# EAGLE library part USB3343 (library kmod-testing)
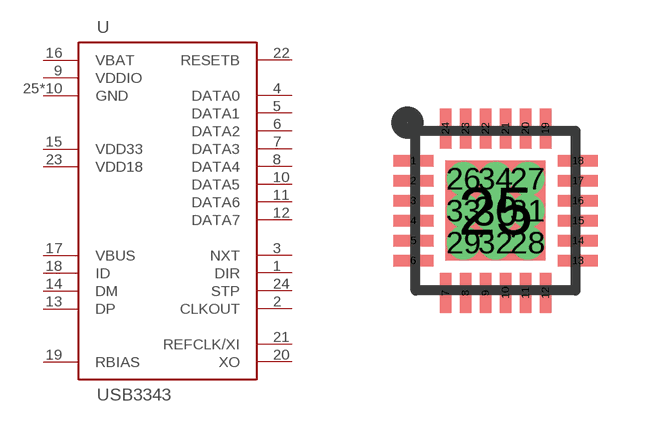
[diagram p9: symbol with the pads of QFN24; footprint QFN24]

Designator prefix -

## USB3343  [QFN24]
1  DIR
2  CLKOUT
3  NXT
4  DATA0
5  DATA1
6  DATA2
7  DATA3
8  DATA4
9  VDDIO  in
10  DATA5
11  DATA6
12  DATA7
13  DP
14  DM
15  VDD33  out
16  VBAT  in
17  VBUS  in
18  ID  in
19  RBIAS  out
20  XO
21  REFCLK/XI
22  RESETB
23  VDD18  out
24  STP
25  GND  in
26  GND  in
27  GND  in
28  GND  in
29  GND  in
30  GND  in
31  GND  in
32  GND  in
33  GND  in
34  GND  in

## Footprint QFN24 (pad centres in mm)
QFN24, 0.5mm pitch Created from the datasheet http://ww1.microchip.com/downloads/en/DeviceDoc/334x.pdf#page=88 lengthened the pads some more added vias for hand-soldering
smd 1 x 0.28: 1 -2.06,1.25; 2 -2.06,0.75; 3 -2.06,0.25; 4 -2.06,-0.25; 5 -2.06,-0.75; 6 -2.06,-1.25; 13 2.06,-1.25; 14 2.06,-0.75; 15 2.06,-0.25; 16 2.06,0.25; 17 2.06,0.75; 18 2.06,1.25
smd 0.28 x 1: 7 -1.25,-2.06; 8 -0.75,-2.06; 9 -0.25,-2.06; 10 0.25,-2.06; 11 0.75,-2.06; 12 1.25,-2.06; 19 1.25,2.06; 20 0.75,2.06; 21 0.25,2.06; 22 -0.25,2.06; 23 -0.75,2.06; 24 -1.25,2.06
smd 2.5 x 2.5: 25 0,0
drill 0.33: 26 -0.8,0.8; 27 0.8,0.8; 28 0.8,-0.8; 29 -0.8,-0.8; 31 0.8,0; 32 0,-0.8; 33 -0.8,0; 34 0,0.8
drill 0.6: 30 0,0